# Altium schematic symbol library Atmel_SAM_ARM_Microcontrollers.SchLib: 1 symbol
Pins are listed as number, name and electrical type; pins without a type are passive.

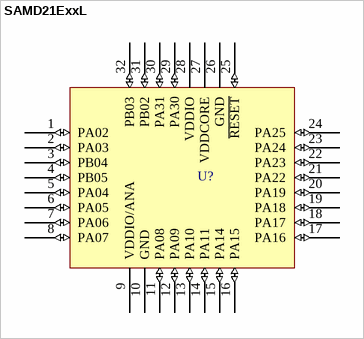
[diagram p0: symbol SAMD21ExxL]

## SAMD21ExxL
designator U?
footprint QFN32_L (Footprint not found)
pins: 1 PA02 (io), 2 PA03 (io), 3 PB04 (io), 4 PB05 (io), 5 PA04 (io), 6 PA05 (io), 7 PA06 (io), 8 PA07 (io), 9 VDDIO/ANA (power), 10 GND (power), 11 PA08 (io), 12 PA09 (io), 13 PA10 (io), 14 PA11 (io), 15 PA14 (io), 16 PA15 (io), 17 PA16 (io), 18 PA17 (io), 19 PA18 (io), 20 PA19 (io), 21 PA22 (io), 22 PA23 (io), 23 PA24 (io), 24 PA25 (io), 25 ~{RESET} (io), 26 GND (power), 27 VDDCORE (power), 28 VDDIO (power), 29 PA30 (io), 30 PA31 (io), 31 PB02 (io), 32 PB03 (io)